# EAGLE library part ATMEGA324A (library NSL)
edit this description Auto generated by make-symbol-device-package-bsdl.ulp Rev. 34 Source:
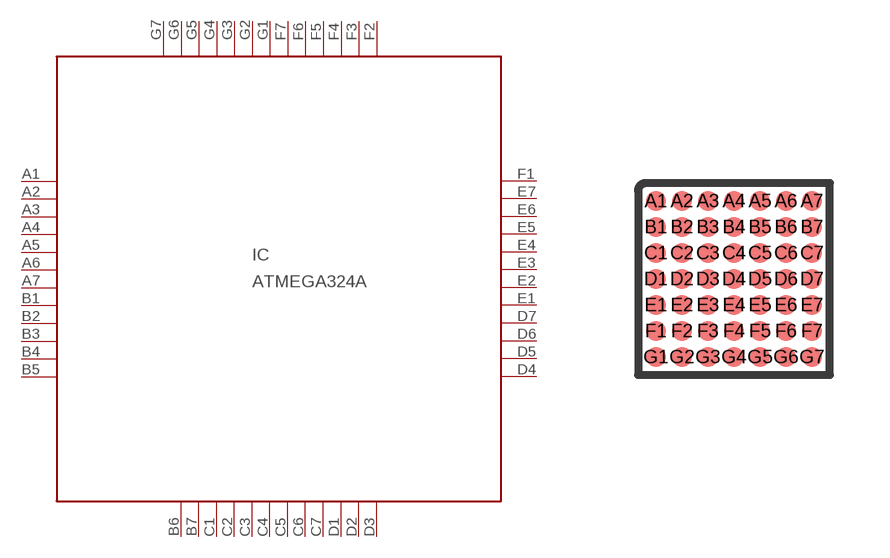
[diagram p2: symbol with the pads of VBGA; footprint VBGA]

Designator prefix IC

## ATMEGA324A  [VBGA]
A1    pas
A2    pas
A3    pas
A4    pas
A5    pas
A6    pas
A7    pas
B1    pas
B2    pas
B3    pas
B4    pas
B5    pas
B6    pas
B7    pas
C1    pas
C2    pas
C3    pas
C4    pas
C5    pas
C6    pas
C7    pas
D1    pas
D2    pas
D3    pas
D4    pas
D5    pas
D6    pas
D7    pas
E1    pas
E2    pas
E3    pas
E4    pas
E5    pas
E6    pas
E7    pas
F1    pas
F2    pas
F3    pas
F4    pas
F5    pas
F6    pas
F7    pas
G1    pas
G2    pas
G3    pas
G4    pas
G5    pas
G6    pas
G7    pas

## Footprint VBGA (pad centres in mm)
ATMEGA324A NullSpace labs - ATMEGA324A VBGA Rev. 1 Source:ATMEL <http://www.atmel.com/dyn/resources/prod_documents/doc8272.pdf>
smd 0.5 x 0.5: A1 -1.95,1.95; A2 -1.3,1.95; A3 -0.65,1.95; A4 0,1.95; A5 0.65,1.95; A6 1.3,1.95; A7 1.95,1.95; B1 -1.95,1.3; B2 -1.3,1.3; B3 -0.65,1.3; B4 0,1.3; B5 0.65,1.3; B6 1.3,1.3; B7 1.95,1.3; C1 -1.95,0.65; C2 -1.3,0.65; C3 -0.65,0.65; C4 0,0.65; C5 0.65,0.65; C6 1.3,0.65; C7 1.95,0.65; D1 -1.95,0; D2 -1.3,0; D3 -0.65,0; D4 0,0; D5 0.65,0; D6 1.3,0; D7 1.95,0; E1 -1.95,-0.65; E2 -1.3,-0.65; E3 -0.65,-0.65; E4 0,-0.65; E5 0.65,-0.65; E6 1.3,-0.65; E7 1.95,-0.65; F1 -1.95,-1.3; F2 -1.3,-1.3; F3 -0.65,-1.3; F4 0,-1.3; F5 0.65,-1.3; F6 1.3,-1.3; F7 1.95,-1.3; G1 -1.95,-1.95; G2 -1.3,-1.95; G3 -0.65,-1.95; G4 0,-1.95; G5 0.65,-1.95; G6 1.3,-1.95; G7 1.95,-1.95